# Altium footprint library 2021-01-25_15-19-21.PcbLib: 1 footprints
Each footprint in its own frame and in the unit in brackets; x right, y up, seen from the top. Pads: shape width x height; smd on the part's side, far side on the other; paste and mask are expansions set on the pad; w line width, h text height; cw(c..) or ccw(c..) is an arc to the next point about the centre after c.
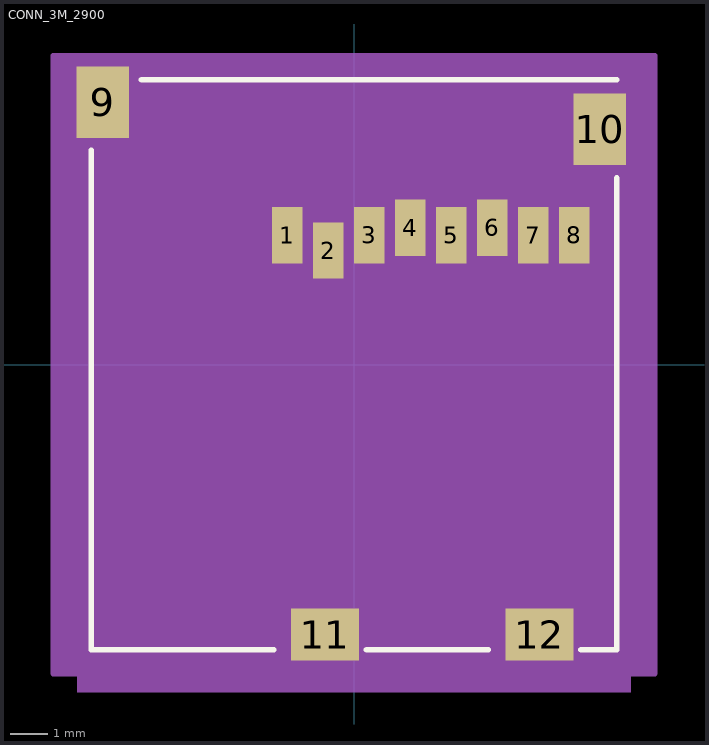
[diagram p0: the footprint, top view; thin cyan lines are the x and y axes]

## CONN_3M_2900 [mil]
pads (12):
  rect 32x59 smd: 1(-69.76,135.78) 2(-26.76,119.78) 3(16.24,135.78) 4(59.24,143.78) 5(102.24,135.78) 6(145.24,143.78) 7(188.24,135.78) 8(231.24,135.78)
  rect 55x75 smd: 9(-263.5,275.5) 10(257.9,247.1)
  rect 71x55 smd: 11(-30.5,-283) 12(194.5,-283)
Top Overlay:
  lines w6: -275.5,224.9 -275.5,-299 -84.1,-299 ; -222.9,299 275.5,299 ; 13.1,-299 140.9,-299 ; 238.1,-299 275.5,-299 275.5,195.9
Mechanical 5:
  region: -290.5,314 290.5,314 290.5,-343.5 -290.5,-343.5
Mechanical 13:
  lines w1: -275.5,-299 -275.5,299 275.5,299 275.5,-299 -275.5,-299
Mechanical 15:
  region: -315.5,324 -315.5,-324 315.5,-324 315.5,324
  lines w6: -315.5,-324 -315.5,324 315.5,324 315.5,-324 -315.5,-324
3D body: height 10, standoff 0, extent 0,0 10,10